# Altium footprint library AnalogTemp.PcbLib: 1 footprints
Each footprint in its own frame and in the unit in brackets; x right, y up, seen from the top. Pads: shape width x height; smd on the part's side, far side on the other; paste and mask are expansions set on the pad; w line width, h text height; cw(c..) or ccw(c..) is an arc to the next point about the centre after c.
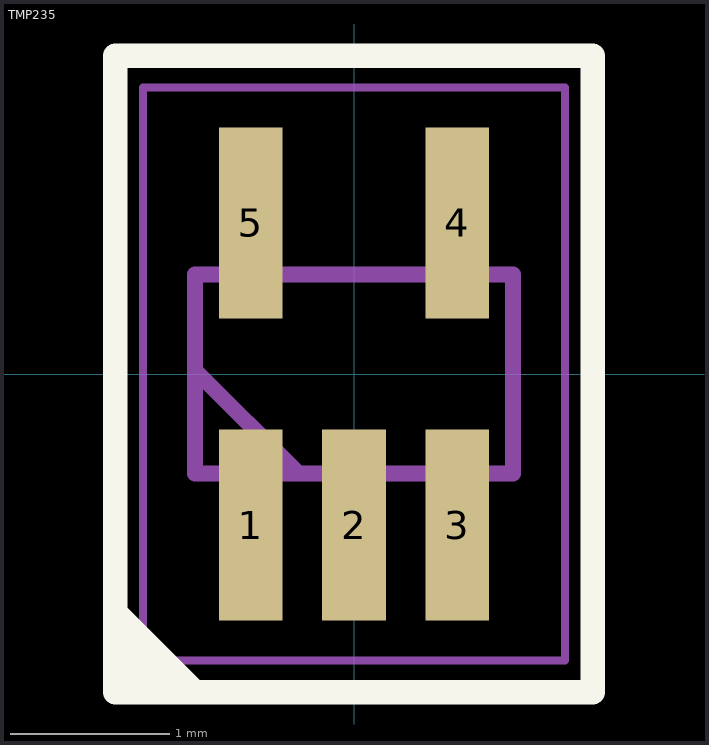
[diagram p0: the footprint, top view; thin cyan lines are the x and y axes]

## TMP235 [mm]
pads (5):
  rect 0.4x1.2 smd mask+0.04: 1(-0.65,-0.95) 2(0,-0.95) 3(0.65,-0.95)
  rect 0.4x1.2 smd: 4(0.65,0.95) 5(-0.65,0.95)
Top Overlay:
  lines w0.152: -1.444,-1.767 -1.444,-1.954 -1.427,-1.971 -1.329,-1.971 -1.468,-1.832 -1.468,-1.742 -1.232,-1.979 -1.126,-1.979 -1.5,-1.605 -1.5,-1.5 -1,-2 ; -1,-2 -1,-2 ; -1.5,-2 -1.5,-1.75 -1.5,2 1.5,2 1.5,-2 -1.5,-2
Mechanical 13:
  lines w0.1: -1,0.025 -0.35,-0.625 ; -1,-0.625 -1,0.625 1,0.625 1,-0.625 -1,-0.625
Mechanical 15:
  lines w0.05: -1.325,-1.8 -1.325,1.8 1.325,1.8 1.325,-1.8 -1.325,-1.8
3D body "TMP235A4DCKR.stp": height 1, standoff 0, extent -1,-1.05 1,1.05